# EAGLE library part SI4946CDY-T1-GE3 (library SI4946CDY-T1-GE3)
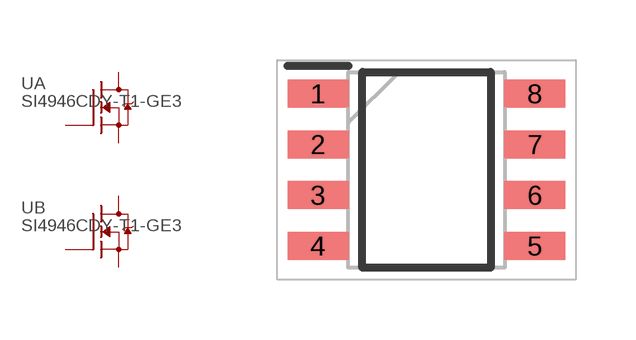
[diagram p0: symbol with the pads of SOIC127P600X175-8N; footprint SOIC127P600X175-8N]

Designator prefix -; gates B=N-MOSFET-GDS-D A=N-MOSFET-GDS-D

## SI4946CDY-T1-GE3  [SOIC127P600X175-8N]
1  A:S  pas
2  A:G  pas
3  B:S  pas
4  B:G  pas
5  B:D  pas
6  B:D  pas
7  A:D  pas
8  A:D  pas

## Footprint SOIC127P600X175-8N (pad centres in mm)
SOIC (NARROW) 8-LEAD
smd 1.525 x 0.7: 1 -2.712,1.905; 2 -2.712,0.635; 3 -2.712,-0.635; 4 -2.712,-1.905; 5 2.712,-1.905; 6 2.712,-0.635; 7 2.712,0.635; 8 2.712,1.905